# Altium footprint library PMP30284RevA_pcb.PcbLib: 17 footprints (part 2 of 2)
Each footprint in its own frame and in the unit in brackets; x right, y up, seen from the top. Pads: shape width x height; smd on the part's side, far side on the other; paste and mask are expansions set on the pad; w line width, h text height; cw(c..) or ccw(c..) is an arc to the next point about the centre after c.
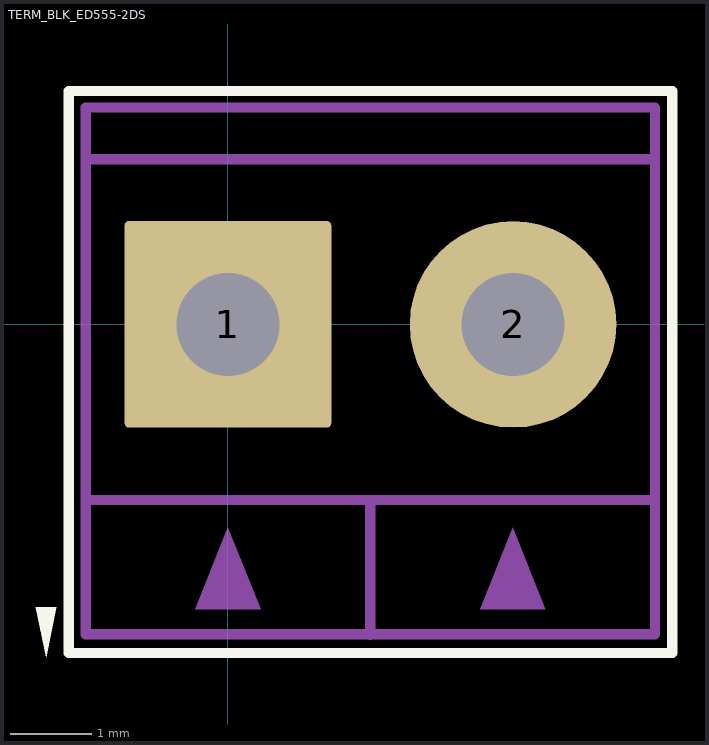
[diagram p1: the footprint, top view; thin cyan lines are the x and y axes]

## TERM_BLK_ED555-2DS [mil]
height 322.83
pads (2):
  rrect4% 100x100 hole 50: 1(0,0)
  round 100 hole 50: 2(138,0)
Top Overlay:
  region: -88,-161 -83,-137 -93,-137
  lines w5: -77,-159 215,-159 215,113 -77,113 -77,-159
Mechanical 5:
  region: 153.54,-137.8 122.05,-137.8 137.8,-98.43
  region: 15.75,-137.8 -15.75,-137.8 0,-98.43
  lines w5: -68.9,-85 206.69,-85 ; -68.9,80 206.69,80 ; 68.9,-150.2 68.9,-85 ; -68.9,-150 206.69,-150 206.69,105 -68.9,105 -68.9,-150
  text ".Designator" at 85,20 h40
3D body "On-Shore_ED555_2DS.stp": height 323.43, standoff -137.2, extent -68.7,-149.61 206.89,106.29